# EAGLE library part BREAKOUT_FP_V1 (library breakout_base)
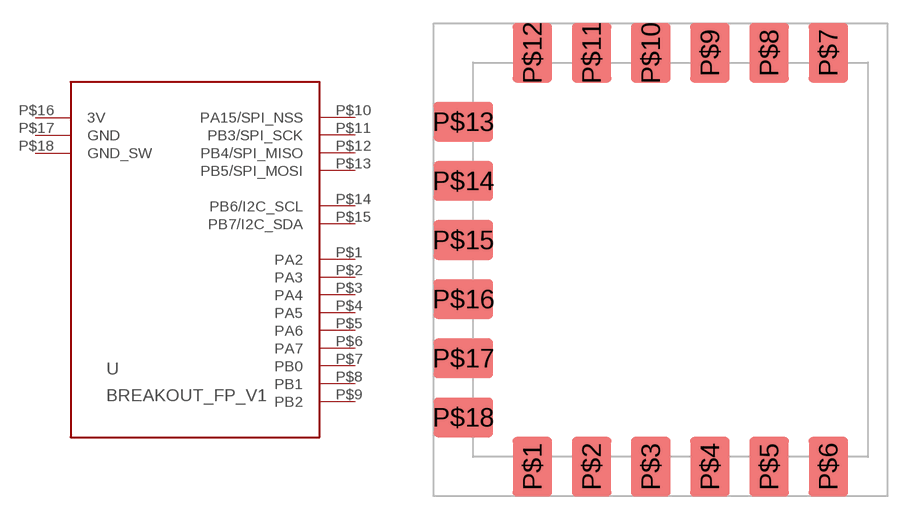
[diagram p0: symbol with the pads of BREAKOUT_FOOTPRINT_V1; footprint BREAKOUT_FOOTPRINT_V1]

Designator prefix -

## BREAKOUT_FP_V1  [BREAKOUT_FOOTPRINT_V1]
P$1  PA2
P$2  PA3
P$3  PA4
P$4  PA5
P$5  PA6
P$6  PA7
P$7  PB0
P$8  PB1
P$9  PB2
P$10  PA15/SPI_NSS
P$11  PB3/SPI_SCK
P$12  PB4/SPI_MISO
P$13  PB5/SPI_MOSI
P$14  PB6/I2C_SCL
P$15  PB7/I2C_SDA
P$16  3V
P$17  GND
P$18  GND_SW

## Footprint BREAKOUT_FOOTPRINT_V1 (pad centres in mm)
smd 2.54 x 3.81: P$1 6.35,1.905; P$2 10.16,1.905; P$3 13.97,1.905; P$4 17.78,1.905; P$5 21.59,1.905; P$6 25.4,1.905; P$7 25.4,28.575; P$8 21.59,28.575; P$9 17.78,28.575; P$10 13.97,28.575; P$11 10.16,28.575; P$12 6.35,28.575
smd 3.81 x 2.54: P$13 1.905,24.13; P$14 1.905,20.32; P$15 1.905,16.51; P$16 1.905,12.7; P$17 1.905,8.89; P$18 1.905,5.08